# EAGLE library part AS-ITM-00215 (library tinycircuits)
CONN HEADER 6POS .100 VERT
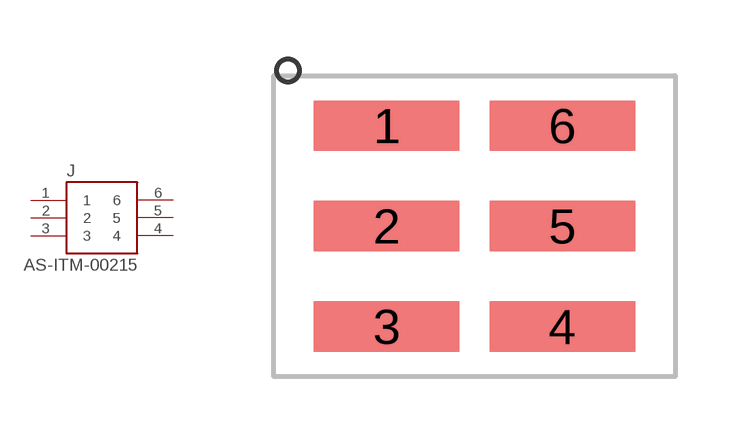
[diagram p91: symbol with the pads of 2X3_.1"_HEADER_SMT; footprint 2X3_.1"_HEADER_SMT]

Designator prefix J

## AS-ITM-00215 (PARTNO: AS-ITM-00215; VALUE: 0015910060)  [2X3_.1"_HEADER_SMT]
1  1
2  2
3  3
4  4
5  5
6  6

## Footprint 2X3_.1"_HEADER_SMT (pad centres in mm)
smd 3.683 x 1.27: 1 -2.223,2.54; 2 -2.223,0; 3 -2.223,-2.54; 4 2.223,-2.54; 5 2.223,0; 6 2.223,2.54